# EAGLE library part CON_HEADER_2X06 (library bb_pinheader)
2x5 Pin header
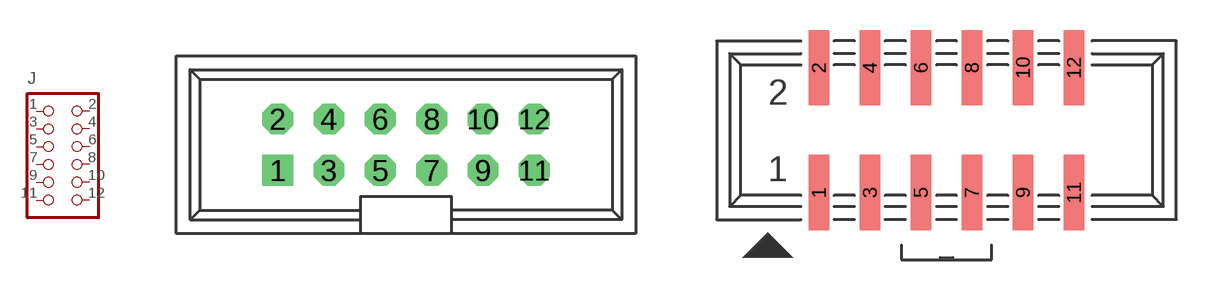
[diagram p3: symbol with the pads of PINSHRD_PTH_2X06; footprints PINSHRD_PTH_2X06, PINSHRD_SMT_2X06]

Designator prefix J

## CON_HEADER_2X06-PTH+SHROUDED  [PINSHRD_PTH_2X06]
1  1  pas
2  2  pas
3  3  pas
4  4  pas
5  5  pas
6  6  pas
7  7  pas
8  8  pas
9  9  pas
10  10  pas
11  11  pas
12  12  pas

## CON_HEADER_2X06-SMD+SHROUDED  [PINSHRD_SMT_2X06]
Pads as for PINSHRD_PTH_2X06

## Footprint PINSHRD_PTH_2X06 (pad centres in mm)
PIN HEADER - 2.54
drill 1.016 square: 1 -6.35,-1.27
drill 1.016 octagon: 2 -6.35,1.27; 3 -3.81,-1.27; 4 -3.81,1.27; 5 -1.27,-1.27; 6 -1.27,1.27; 7 1.27,-1.27; 8 1.27,1.27; 9 3.81,-1.27; 10 3.81,1.27; 11 6.35,-1.27; 12 6.35,1.27

## Footprint PINSHRD_SMT_2X06 (pad centres in mm)
pitch = 0.100 [2.54], 2x5 source: http://www.mlelectronic.com/shrouded-headers/shrouded-headers-100.asp
smd 1.02 x 3.75: 1 -6.35,-3.107; 2 -6.35,3.107; 3 -3.81,-3.107; 4 -3.81,3.107; 5 -1.27,-3.107; 6 -1.27,3.107; 7 1.27,-3.107; 8 1.27,3.107; 9 3.81,-3.107; 10 3.81,3.107; 11 6.35,-3.107; 12 6.35,3.107